# Altium schematic symbol library TRS_BI_PNP.SchLib: 1 symbol
Pins are listed as number, name and electrical type; pins without a type are passive.

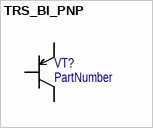
[diagram p0: symbol TRS_BI_PNP]

## TRS_BI_PNP
designator VT?  (value not drawn)
Биполярный PNP транзистор (дезигнаторы буквенные B/E/C); PartNumber: PartNumber
pins: B, C, E